# Altium footprint library PowerMeter.PcbLib: 55 footprints (part 1 of 4)
Each footprint in its own frame and in the unit in brackets; x right, y up, seen from the top. Pads: shape width x height; smd on the part's side, far side on the other; paste and mask are expansions set on the pad; w line width, h text height; cw(c..) or ccw(c..) is an arc to the next point about the centre after c.
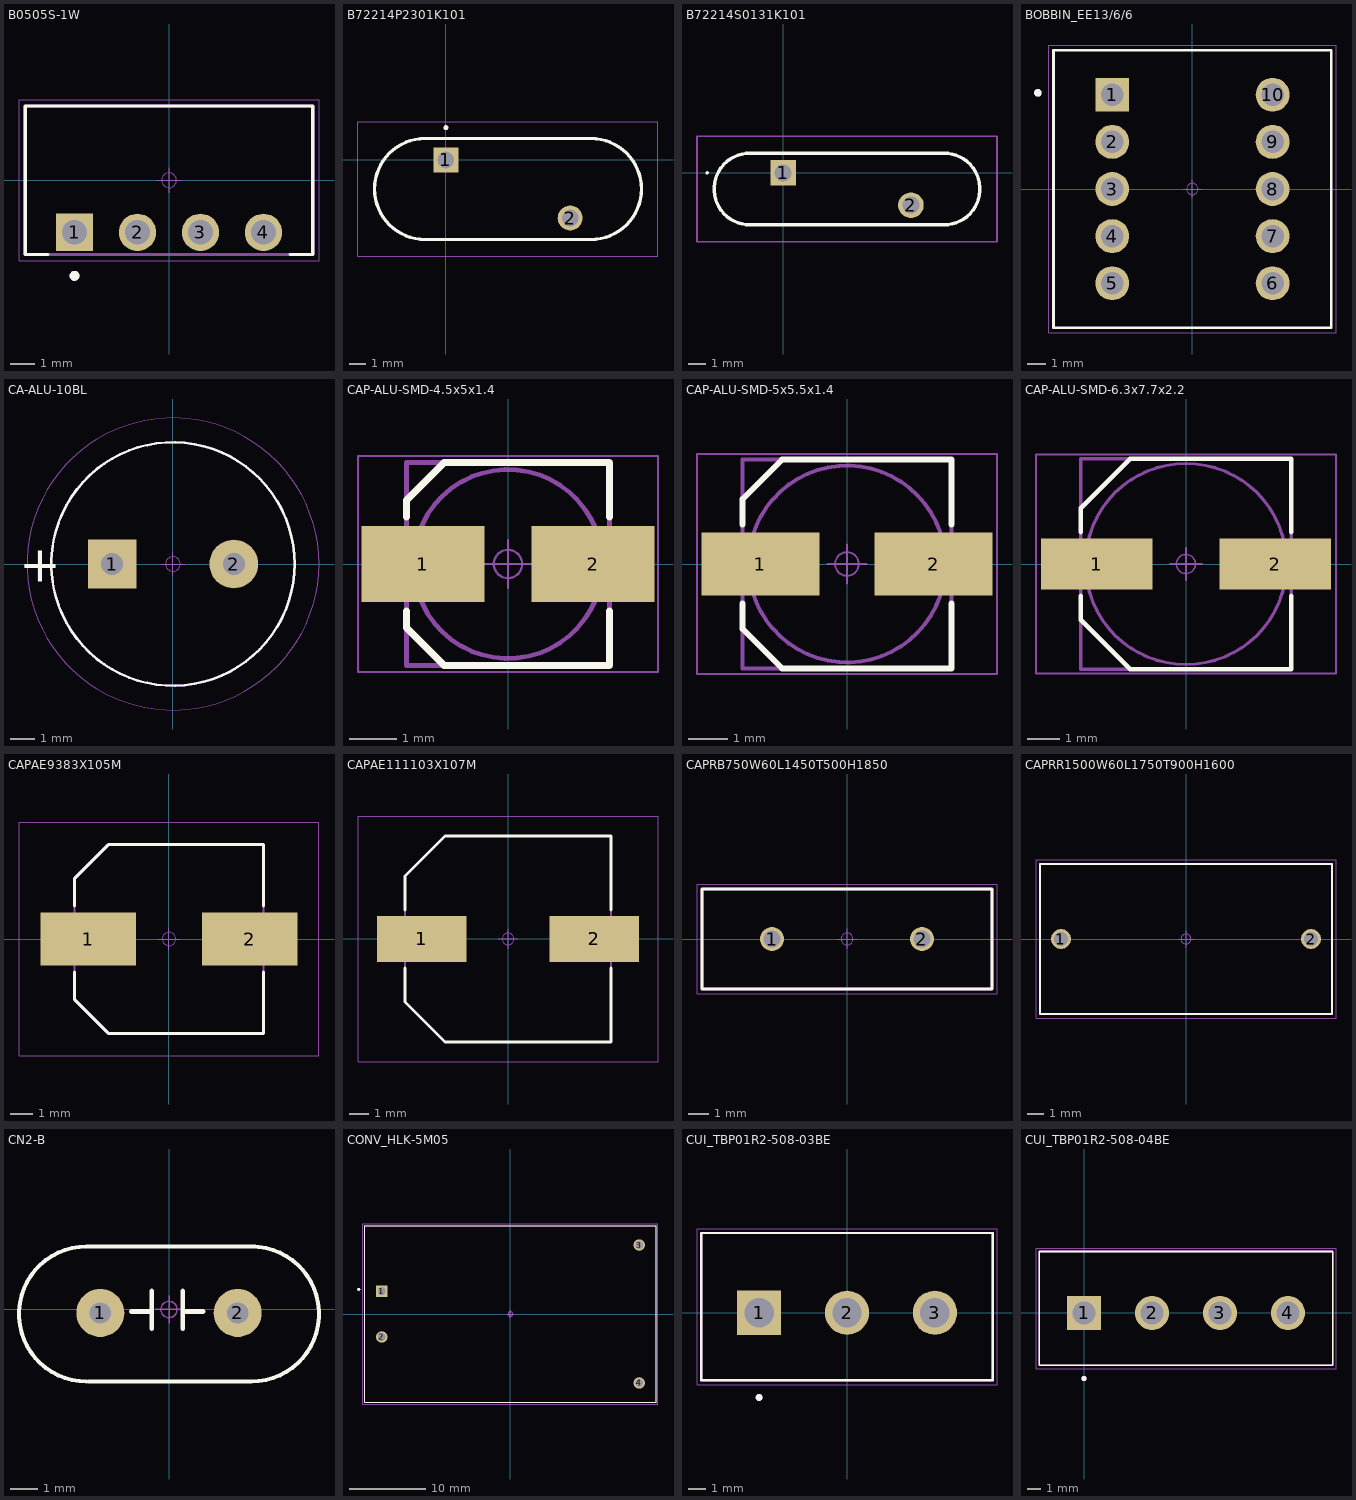
[diagram p0: the footprints below, top view; thin cyan lines are the x and y axes]

## B0505S-1W [mm]
pads (4):
  rect 1.508x1.508 / inner round 1.508 / far side rect 1.508x1.508 hole 1: 1(-3.81,-2.1)
  round 1.508 hole 1: 2(-1.27,-2.1) 3(1.27,-2.1) 4(3.81,-2.1)
Top Overlay:
  circle w0.2: c-3.81,-3.854 r0.1
  lines w0.127: -4.884,-3 -5.8,-3 -5.8,3 5.8,3 5.8,-3 4.884,-3
Top Assembly:
  lines w0.127: -5.8,-3 5.8,-3 5.8,3 -5.8,3 -5.8,-3
  text "'.Designator'" at -5.2,-1.3 h1.52
Top Courtyard:
  lines w0.05: -6.05,-3.25 -6.05,3.25 6.05,3.25 6.05,-3.25 -6.05,-3.25
Top Component Center:
  circle w0.05: c0,0 r0.3
  lines w0.05: -0.5,0 0.5,0 ; 0,-0.5 0,0.5
Mechanical 13:
  circle w0.2: c-3.81,-3.854 r0.1
3D body "B_S-1WR3.stp": height 10.16, standoff -4.1, extent -5.8,-3.013 5.8,2.987

## B72214P2301K101 [mm]
pads (2):
  rect 1.5x1.5 hole 1: 1(0,0)
  round 1.5 hole 1: 2(7.5,-3.5)
Top Overlay:
  lines w0.2: 0,1.9 ccw(c0,1.95) 0,2 ; 0,1.9 cw(c0,1.95) 0,2 ; 0,1.9 ccw(c0,1.95) 0,2 ; -1.25,-4.8 cw(c-1.25,-1.75) -1.25,1.3 8.75,1.3 cw(c8.75,-1.75) 8.75,-4.8 -1.25,-4.8
Top Assembly:
  lines w0.1: -1.25,-4.8 cw(c-1.25,-1.75) -1.25,1.3 8.75,1.3 cw(c8.75,-1.75) 8.75,-4.8 -1.25,-4.8
  text "'.Designator'" at -1.1,-3.2 h1.52
Top Courtyard:
  lines w0.05: -5.3,-5.8 12.8,-5.8 12.8,2.3 -5.3,2.3 -5.3,-5.8
3D body "B72214P2301K101.stp": height 17.97, standoff -24.03, extent -2.996,-4.772 10.496,1.112

## B72214S0131K101 [mm]
pads (2):
  rect 1.5x1.5 hole 1: 1(0,0)
  round 1.5 hole 1: 2(7.5,-1.9)
Top Overlay:
  lines w0.1: -4.5,0 cw(c-4.45,0) -4.4,0 cw(c-4.45,0) -4.5,0
  lines w0.2: -1.95,-3.05 cw(c-1.95,-0.95) -1.95,1.15 9.45,1.15 cw(c9.45,-0.95) 9.45,-3.05 -1.95,-3.05
Top Assembly:
  text "'.Designator'" at -0.5,-2.3 h1.52
Mechanical 13:
  lines w0.1: -1.95,-3.05 cw(c-1.95,-0.95) -1.95,1.15 9.45,1.15 cw(c9.45,-0.95) 9.45,-3.05 -1.95,-3.05
Mechanical 15:
  lines w0.1: -5.05,-4.05 12.55,-4.05 12.55,2.15 -5.05,2.15 -5.05,-4.05
3D body "B72214S0131K101.stp": height 17.25, standoff -22.43, extent -3.75,-2.75 11.25,0.85

## BOBBIN_EE13/6/6 [mm]
pads (10):
  rect 1.8x1.8 hole 1.2: 1(-4.255,5)
  round 1.8 hole 1.2: 2(-4.255,2.5) 3(-4.255,0) 4(-4.255,-2.5) 5(-4.255,-5) 6(4.255,-5) 7(4.255,-2.5) 8(4.255,0) 9(4.255,2.5) 10(4.255,5)
Top Overlay:
  circle w0.2: c-8.2,5.1 r0.1
  lines w0.15: -7.365,-7.365 -7.365,7.365 7.365,7.365 7.365,-7.365 -7.365,-7.365
Top Assembly:
  circle w0.2: c-8.2,5.1 r0.1
  lines w0.1: -7.365,-7.365 -7.365,7.365 7.365,7.365 7.365,-7.365 -7.365,-7.365
  text "'.Designator'" at -4.9,-1.8 h1.52
Top Courtyard:
  lines w0.05: -7.615,-7.615 7.615,-7.615 7.615,7.615 -7.615,7.615 -7.615,-7.615
Top Component Center:
  circle w0.05: c0,0 r0.3
  lines w0.05: -0.5,0 0.5,0 ; 0,-0.5 0,0.5
3D body "6--3DModel-STEP-56544.STEP": height 15.24, standoff -3.3, extent -7.366,-7.366 7.366,7.366

## CA-ALU-10BL [mm] "Polarized capacitors, Aluminum Electrolytic Capacitors, 2-Leads, Body 10x20x5x0.6"
height 20
pads (2):
  rect 2x2 hole 0.9: 1(-2.5,0)
  round 2 hole 0.9: 2(2.5,0)
Top Overlay:
  circle w0.1: c0,0 r5
  text "+" at -6.325,-0.737 h1.5
Top Assembly:
  circle w0.1: c0,0 r5
  text "'.Designator'" at -4.4,-1.4 h1.52
Top Courtyard:
  circle w0.05: c0,0 r6
Top Component Center:
  circle w0.05: c0,0 r0.3
  lines w0.05: -0.5,0 0.5,0 ; 0,-0.5 0,0.5
3D body "10x16.step": height 16.2, standoff -3.1, extent -5.127,-4.996 4.875,4.996

## CAP-ALU-SMD-4.5x5x1.4 [mm]
height 5.5
pads (2):
  rect 2.6x1.6 smd: 1(-1.8,0) 2(1.8,0)
Top Overlay:
  lines w0.15: -2.15,-1 -2.15,-1.35 -1.35,-2.15 2.15,-2.15 2.15,-1 ; -2.15,1 -2.15,1.35 -1.35,2.15 2.15,2.15 2.15,1
Top Assembly:
  circle w0.1: c0,0 r2
  lines w0.1: -2.15,-2.15 2.15,-2.15 2.15,2.15 -2.15,2.15 -2.15,-2.15
  text "'.Designator'" at -2.6,-1.5 h1.52
Top Courtyard:
  lines w0.05: -3.175,-2.286 -3.175,2.286 3.175,2.286 3.175,-2.286 -3.175,-2.286
Top Component Center:
  circle w0.05: c0,0 r0.3
  lines w0.05: -0.5,0 0.5,0 ; 0,-0.5 0,0.5
3D body "4x5.5x1.stp": height 5.45, standoff -0.05, extent -2.5,-2.15 2.5,2.15

## CAP-ALU-SMD-5x5.5x1.4 [mm]
height 5.5
pads (2):
  rect 3x1.6 smd: 1(-2.2,0) 2(2.2,0)
Top Overlay:
  lines w0.15: -2.65,-1 -2.65,-1.65 -1.65,-2.65 2.65,-2.65 2.65,-1 ; -2.65,1 -2.65,1.65 -1.65,2.65 2.65,2.65 2.65,1
Top Assembly:
  circle w0.1: c0,0 r2.5
  lines w0.1: -2.65,-2.65 -2.65,2.65 2.65,2.65 2.65,-2.65 -2.65,-2.65
  text "'.Designator'" at -8,-1 h1.52
Top Courtyard:
  lines w0.05: -3.81,-2.794 -3.81,2.794 3.81,2.794 3.81,-2.794 -3.81,-2.794
Top Component Center:
  circle w0.05: c0,0 r0.3
  lines w0.05: -0.5,0 0.5,0 ; 0,-0.5 0,0.5
3D body "5x5.5x1.4.stp": height 5.45, standoff -0.05, extent -3,-2.65 3,2.65

## CAP-ALU-SMD-6.3x7.7x2.2 [mm]
height 7.7
pads (2):
  rect 3.5x1.6 smd: 1(-2.8,0) 2(2.8,0)
Top Overlay:
  lines w0.15: -3.3,-1 -3.3,-1.75 -1.75,-3.3 3.3,-3.3 3.3,-1 ; -3.3,1 -3.3,1.75 -1.75,3.3 3.3,3.3 3.3,1
Top Assembly:
  circle w0.1: c0,0 r3.15
  lines w0.1: -3.3,-3.3 3.3,-3.3 3.3,3.3 -3.3,3.3 -3.3,-3.3
  text "'.Designator'" at -8,-1 h1.52
Top Courtyard:
  lines w0.05: -4.699,-3.429 -4.699,3.429 4.699,3.429 4.699,-3.429 -4.699,-3.429
Top Component Center:
  circle w0.05: c0,0 r0.3
  lines w0.05: -0.5,0 0.5,0 ; 0,-0.5 0,0.5
3D body "6.3x7.7x2.2.stp": height 7.65, standoff -0.05, extent -3.65,-3.3 3.65,3.3

## CAPAE9383X105M [mm] "Aluminum Electrolytic Capacitor, Body 8.30x8.30x10.50mm, IPC Low Density"
height 10.5
pads (2):
  rect 4.3x2.4 smd: 1(-3.625,0) 2(3.625,0)
Top Overlay:
  lines w0.15: -4.25,-1.5 -4.25,-2.725 -2.725,-4.25 4.25,-4.25 4.25,-1.5 ; -4.25,1.5 -4.25,2.725 -2.725,4.25 4.25,4.25 4.25,1.5
Top Assembly:
  lines w0.1: -4.25,-2.725 -2.725,-4.25 4.25,-4.25 4.25,4.25 -2.725,4.25 -4.25,2.725 -4.25,-2.725
  text "'.Designator'" at -3.4,-1.7 h1.52
Top Courtyard:
  lines w0.05: -6.75,-5.25 -6.75,5.25 6.75,5.25 6.75,-5.25 -6.75,-5.25
Top Component Center:
  circle w0.05: c0,0 r0.3
  lines w0.05: -0.5,0 0.5,0 ; 0,-0.5 0,0.5
3D body "CAPAE9383X105M.step": height 10.5, standoff 0, extent -4.65,-4.25 4.65,4.25

## CAPAE111103X107M [mm] "Aluminum Electrolytic Capacitor, Body 10.30x10.30x10.70mm, IPC Low Density"
height 10.7
pads (2):
  rect 4.55x2.35 smd: 1(-4.4,0) 2(4.4,0)
Top Overlay:
  lines w0.15: -5.25,-1.475 -5.25,-3.213 -3.212,-5.25 5.25,-5.25 5.25,-1.475 ; -5.25,1.475 -5.25,3.212 -3.212,5.25 5.25,5.25 5.25,1.475
Top Assembly:
  lines w0.1: -5.25,-3.213 -5.25,3.212 -3.212,5.25 5.25,5.25 5.25,-5.25 -3.212,-5.25 -5.25,-3.213
  text "'.Designator'" at -3.4,-1.7 h1.52
Top Courtyard:
  lines w0.05: -7.65,-6.25 7.65,-6.25 7.65,6.25 -7.65,6.25 -7.65,-6.25
Top Component Center:
  circle w0.05: c0,0 r0.3
  lines w0.05: -0.5,0 0.5,0 ; 0,-0.5 0,0.5
3D body "CAPAE111103X107M.step": height 10.7, standoff 0, extent -5.55,-5.25 5.55,5.25

## CAPRB750W60L1450T500H1850 [mm] "Cap 2KV ptich 7.5mm"
pads (2):
  round 1.2 hole 0.85: 1(-3.75,0) 2(3.75,0)
Top Overlay:
  lines w0.127: -7.25,-2.5 -7.25,2.5 7.25,2.5 7.25,-2.5 -7.25,-2.5
Top Assembly:
  lines w0.127: -7.25,-2.5 -7.25,2.5 7.25,2.5 7.25,-2.5 -7.25,-2.5
  text "'.Designator'" at -8,-1 h1.52
Top Courtyard:
  lines w0.05: -7.5,-2.75 7.5,-2.75 7.5,2.75 -7.5,2.75 -7.5,-2.75
Top Component Center:
  circle w0.05: c0,0 r0.3
  lines w0.05: -0.5,0 0.5,0 ; 0,-0.5 0,0.5
3D body "step_temp.STEP": height 18.5, standoff -21, extent -7.25,-2.498 7.25,2.498

## CAPRR1500W60L1750T900H1600 [mm]
pads (2):
  round 1.2 hole 0.85: 1(-7.5,0) 2(7.5,0)
Top Overlay:
  lines w0.127: -8.75,-4.5 -8.75,4.5 8.75,4.5 8.75,-4.5 -8.75,-4.5
Top Assembly:
  lines w0.127: -8.75,-4.5 -8.75,4.5 8.75,4.5 8.75,-4.5 -8.75,-4.5
  text "'.Designator'" at -8,-1 h1.52
Top Courtyard:
  lines w0.05: -9,-4.75 9,-4.75 9,4.75 -9,4.75 -9,-4.75
Top Component Center:
  circle w0.05: c0,0 r0.3
  lines w0.05: -0.5,0 0.5,0 ; 0,-0.5 0,0.5
3D body "ECQUAAF334K.STEP": height 16, standoff -20, extent -8.75,-4.5 8.75,4.5

## CN2-B [mil]
height 200
pads (2):
  round 70 hole 31: 1(-100,-5) 2(100,-5)
Top Overlay:
  lines w5.91: -120,-105 cw(c-120,-6.57) -120,91.85 125,91.85 ; -116.57,-105 120,-105 ccw(c120,-6.57) 120,91.85
  lines w7: -55,-3.15 -25,-3.15 ; -25,-28.15 -25,26.85 ; 20,-28.15 20,26.85 ; 20,-3.15 50,-3.15
Top Assembly:
  lines w3.94: -120,-105 cw(c-120,-6.57) -120,91.85 125,91.85 ; -116.57,-105 120,-105 ccw(c120,-6.57) 120,91.85
  text "'.Designator'" at -200.79,-59.06 h60
Top Component Center:
  circle w1.97: c0,0 r11.81
  lines w1.97: -19.68,0 19.69,0 ; 0,-19.68 0,19.69
3D body "User Library-TDK_CAP_CK45_.step": height 492.07, standoff -196.85, extent -216.52,-103.42 216.32,93.43

## CONV_HLK-5M05 [mm]
pads (4):
  rect 1.5x1.5 / inner round 1.5 / far side rect 1.5x1.5 hole 1: 1(-16.8,3)
  round 1.5 hole 1: 2(-16.8,-3) 3(16.8,9) 4(16.8,-9)
Top Overlay:
  circle w0.2: c-19.8,3.2 r0.1
  lines w0.127: -19,-11.5 19,-11.5 19,11.5 -19,11.5 -19,-11.5
Top Assembly:
  text "'.Designator'" at -8,-1 h1.52
Top Courtyard:
  lines w0.05: -19.25,-11.75 -19.25,11.75 19.25,11.75 19.25,-11.75 -19.25,-11.75
  lines w0.127: -19,-11.5 -19,11.5 19,11.5 19,-11.5 -19,-11.5
Top Component Center:
  circle w0.05: c0,0 r0.3
  lines w0.05: -0.5,0 0.5,0 ; 0,-0.5 0,0.5
Mechanical 13:
  circle w0.2: c-19.8,3.2 r0.1
3D body "step_temp.STEP": height 18, standoff -5, extent -19,-11.5 19,11.5

## CUI_TBP01R2-508-03BE [mm]
pads (3):
  rect 2.55x2.55 / inner round 2.55 / far side rect 2.55x2.55 hole 1.7: 1(-5.08,0)
  round 2.55 hole 1.7: 2(0,0) 3(5.08,0)
Top Overlay:
  circle w0.2: c-5.08,-4.9 r0.1
  lines w0.127: -8.42,-3.9 -8.42,4.6 8.42,4.6 8.42,-3.9 -8.42,-3.9
Top Assembly:
  lines w0.127: -8.42,-3.9 8.42,-3.9 8.42,4.6 -8.42,4.6 -8.42,-3.9
  text "'.Designator'" at -8,-1 h1.52
Top Courtyard:
  lines w0.05: -8.67,-4.15 8.67,-4.15 8.67,4.85 -8.67,4.85 -8.67,-4.15
Mechanical 13:
  circle w0.2: c-5.08,-4.9 r0.1
3D body "step_temp.STEP": height 12.1, standoff -3.9, extent -8.42,-3.93 8.42,4.57

## CUI_TBP01R2-508-04BE [mm]
pads (4):
  rect 2.55x2.55 / inner round 2.55 / far side rect 2.55x2.55 hole 1.7: 1(0,0)
  round 2.55 hole 1.7: 2(5.08,0) 3(10.16,0) 4(15.24,0)
Top Overlay:
  circle w0.2: c0,-4.9 r0.1
  lines w0.127: -3.34,-3.9 -3.34,4.6 18.58,4.6 18.58,-3.9 -3.34,-3.9
Top Assembly:
  lines w0.127: -3.34,-3.9 18.58,-3.9 18.58,4.6 -3.34,4.6 -3.34,-3.9
  text "'.Designator'" at -0.3,-1 h1.52
Top Courtyard:
  lines w0.05: -3.59,-4.15 -3.59,4.85 18.83,4.85 18.83,-4.15 -3.59,-4.15
Mechanical 13:
  circle w0.2: c0,-4.9 r0.1
3D body "step_temp.STEP": height 12.1, standoff -3.9, extent -3.34,-3.9 18.58,4.6